# Altium footprint library HLK-5M12.PcbLib: 2 footprints
Each footprint in its own frame and in the unit in brackets; x right, y up, seen from the top. Pads: shape width x height; smd on the part's side, far side on the other; paste and mask are expansions set on the pad; w line width, h text height; cw(c..) or ccw(c..) is an arc to the next point about the centre after c.
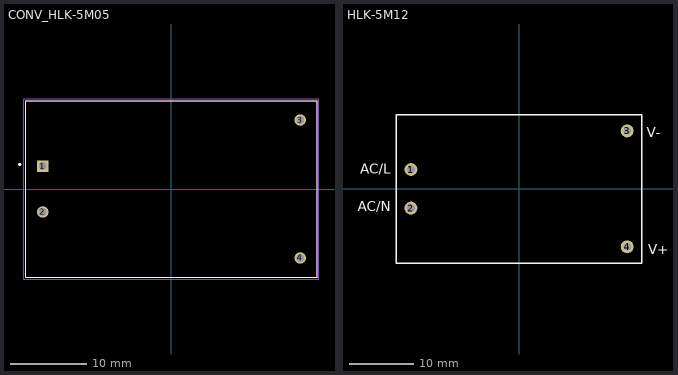
[diagram p0: the footprints below, top view; thin cyan lines are the x and y axes]

## CONV_HLK-5M05 [mm]
pads (4):
  rect 1.5x1.5 / inner round 1.5 / far side rect 1.5x1.5 hole 1: 1(-16.8,3)
  round 1.5 hole 1: 2(-16.8,-3) 3(16.8,9) 4(16.8,-9)
Top Overlay:
  circle w0.2: c-19.8,3.2 r0.1
  lines w0.127: -19,-11.5 19,-11.5 19,11.5 -19,11.5 -19,-11.5
Mechanical 13:
  circle w0.2: c-19.8,3.2 r0.1
  lines w0.127: -19,-11.5 -19,11.5 19,11.5 19,-11.5 -19,-11.5
Mechanical 15:
  lines w0.05: -19.25,-11.75 -19.25,11.75 19.25,11.75 19.25,-11.75 -19.25,-11.75
3D body "step_temp.STEP": height 23, standoff 0, extent -19,-11.5 19,11.5

## HLK-5M12 [mm]
pads (4):
  round 2 hole 1.2 paste+0 mask+0.051: 1(-16.8,3) 2(-16.8,-3) 3(16.8,9) 4(16.8,-9)
Top Overlay:
  lines w0.254: 19.05,-11.557 -19.05,-11.557 -19.05,11.5 19.05,11.5 19.05,-11.5
  text "V+" at 20.066,-10.16 h1.52
  text "V-" at 19.812,8.001 h1.52
  text "AC/N" at -25.019,-3.465 h1.52
  text "AC/L" at -24.638,2.377 h1.52
3D body "Convertidor AC DC HLK-5M05 .step": height 19.15, standoff -4.15, extent -19.177,-11.523 19.423,11.777